# EAGLE library part MOLEX_FPC_52892_1233 (library PassTransistor)
Molex 12 Pin FPC: Specifications: Manufacturer: Molex, LLC Flat Flex Type: FFC,FPC Mounting Type: Surface Mount Connector/Contact Type: Contacts, Bottom Number of Positions: 12 Pitch: 0.020" (0.50 mm) FFC,FCB Thickness: 0.30mm Voltage Rating: 50V Current Rating: 0.5A Datasheet: 52892-xx33 <https://www.molex.com/pdm_docs/sd/528922433_sd.pdf> Digi-Key Part #: WM11084CT-ND <https://www.digikey.com/product-detail/en/molex-llc/0528921233/WM11084CT-ND/5171211>
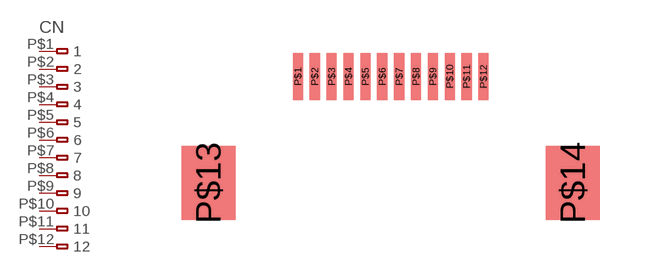
[diagram p6: symbol with the pads of MOLEX_WM1108; footprint MOLEX_WM1108]

Designator prefix CN

## MOLEX_FPC_52892_1233  [MOLEX_WM1108]
P$1  1  pas
P$2  2  pas
P$3  3  pas
P$4  4  pas
P$5  5  pas
P$6  6  pas
P$7  7  pas
P$8  8  pas
P$9  9  pas
P$10  10  pas
P$11  11  pas
P$12  12  pas

## Footprint MOLEX_WM1108 (pad centres in mm)
smd 0.3 x 1.4: P$1 -2.75,0; P$2 -2.25,0; P$3 -1.75,0; P$4 -1.25,0; P$5 -0.75,0; P$6 -0.25,0; P$7 0.25,0; P$8 0.75,0; P$9 1.25,0; P$10 1.75,0; P$11 2.25,0; P$12 2.75,0
smd 1.6 x 2.2: P$13 -5.4,-3.15; P$14 5.4,-3.15